# EAGLE library part TXB0106 (library PAS)
6-bit Bidirectional Voltage-Level Translator, with direction sensing.
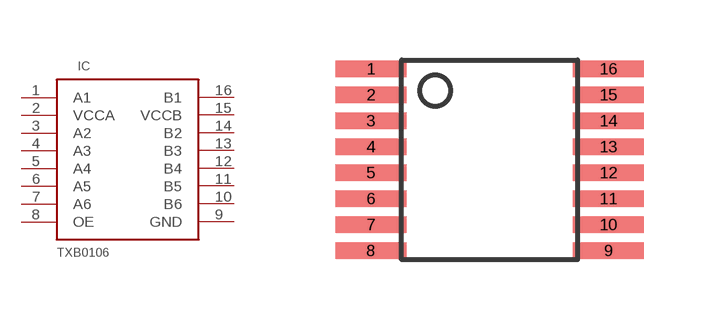
[diagram p0: symbol with the pads of TSSOP16; footprint TSSOP16]

Designator prefix IC

## TXB0106  [TSSOP16]
1  A1  pas
2  VCCA  pas
3  A2  pas
4  A3  pas
5  A4  pas
6  A5  pas
7  A6  pas
8  OE  pas
9  GND  pas
10  B6  pas
11  B5  pas
12  B4  pas
13  B3  pas
14  B2  pas
15  VCCB  pas
16  B1  pas

## Footprint TSSOP16 (pad centres in mm)
TSSOP-16 4.4mm wide
smd 1.78 x 0.42: 1 -2.97,2.275; 2 -2.97,1.625; 3 -2.97,0.975; 4 -2.97,0.325; 5 -2.97,-0.325; 6 -2.97,-0.975; 7 -2.97,-1.625; 8 -2.97,-2.275; 9 2.97,-2.275; 10 2.97,-1.625; 11 2.97,-0.975; 12 2.97,-0.325; 13 2.97,0.325; 14 2.97,0.975; 15 2.97,1.625; 16 2.97,2.275